# EAGLE library part MAX5500 (library libredaq-comps)
The MAX5500/MAX5501 integrate four low-power, 12-bit digital-to analog converters (DACs) and four precision output amplifiers in a small, 20-pin package.
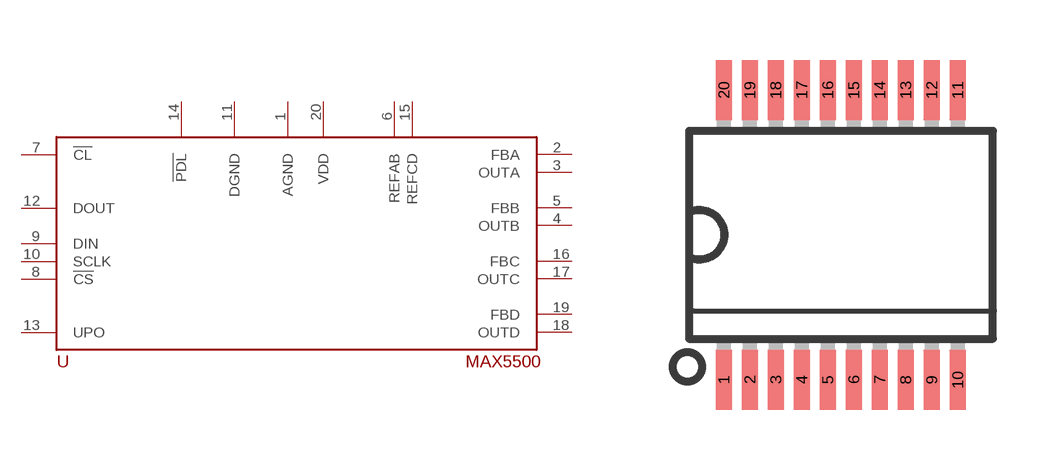
[diagram p12: symbol with the pads of SSOP20; footprint SSOP20]

Designator prefix U

## MAX5500  [SSOP20]
1  AGND
2  FBA
3  OUTA
4  OUTB
5  FBB
6  REFAB
7  !CL
8  !CS
9  DIN
10  SCLK
11  DGND
12  DOUT
13  UPO
14  !PDL
15  REFCD
16  FBC
17  OUTC
18  OUTD
19  FBD
20  VDD

## Footprint SSOP20 (pad centres in mm)
Shrink Small Outline Package package type SS
smd 0.4 x 1.5: 1 -2.925,-3.625; 2 -2.275,-3.625; 3 -1.625,-3.625; 4 -0.975,-3.625; 5 -0.325,-3.625; 6 0.325,-3.625; 7 0.975,-3.625; 8 1.625,-3.625; 9 2.275,-3.625; 10 2.925,-3.625; 11 2.925,3.625; 12 2.275,3.625; 13 1.625,3.625; 14 0.975,3.625; 15 0.325,3.625; 16 -0.325,3.625; 17 -0.975,3.625; 18 -1.625,3.625; 19 -2.275,3.625; 20 -2.925,3.625